# EAGLE library part ADAFRUIT_*555 (library rose)
TIMER Changed DIP package to have round (not oval) pin pads http://www.ladyada.net/library/pcb/eaglelibrary.html
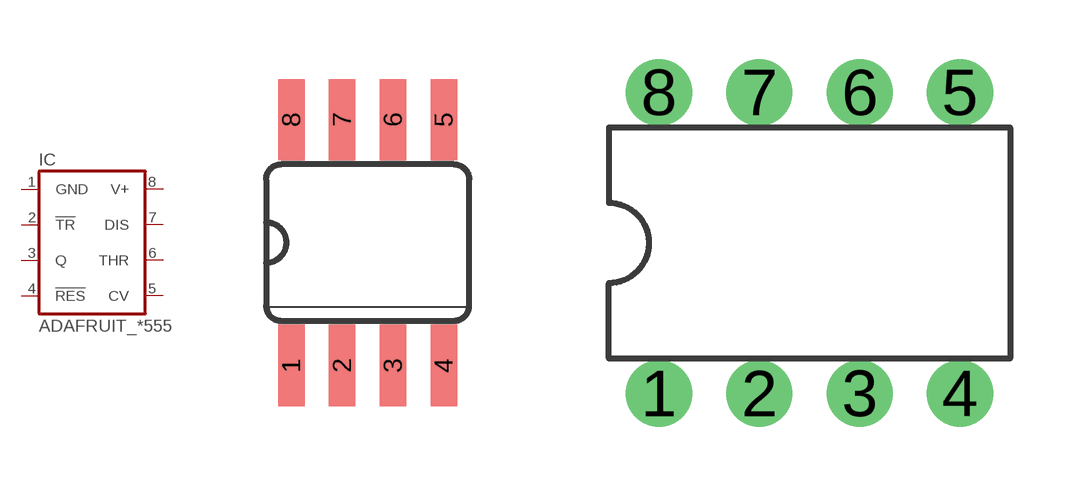
[diagram p10: symbol with the pads of ADAFRUIT_SO08; footprints ADAFRUIT_SO08, ADAFRUIT_DIL08-ROUND]

Designator prefix IC

## ADAFRUIT_555D, ADAFRUIT_LM555D, ADAFRUIT_NE555D, ADAFRUIT_SE555D, ADAFRUIT_UA555D  [ADAFRUIT_SO08]
1  GND
2  !TR
3  Q
4  !RES
5  CV
6  THR
7  DIS
8  V+

## ADAFRUIT_555N, ADAFRUIT_LM555N, ADAFRUIT_NE555N, ADAFRUIT_SE555N, ADAFRUIT_UA555N  [ADAFRUIT_DIL08-ROUND]
Pads as for ADAFRUIT_SO08

## Footprint ADAFRUIT_SO08 (pad centres in mm)
smd 0.66 x 2.032: 1 -1.905,-3.073; 2 -0.635,-3.073; 3 0.635,-3.073; 4 1.905,-3.073; 5 1.905,3.073; 6 0.635,3.073; 7 -0.635,3.073; 8 -1.905,3.073

## Footprint ADAFRUIT_DIL08-ROUND (pad centres in mm)
Dual In Line Package
drill 0.813 pad 1.676: 1 -3.81,-3.81; 2 -1.27,-3.81; 3 1.27,-3.81; 4 3.81,-3.81; 5 3.81,3.81; 6 1.27,3.81; 7 -1.27,3.81; 8 -3.81,3.81